# Altium footprint library Synthiam-roundtrip.PcbLib: 483 footprints (part 15 of 31)
Each footprint in its own frame and in the unit in brackets; x right, y up, seen from the top. Pads: shape width x height; smd on the part's side, far side on the other; paste and mask are expansions set on the pad; w line width, h text height; cw(c..) or ccw(c..) is an arc to the next point about the centre after c.
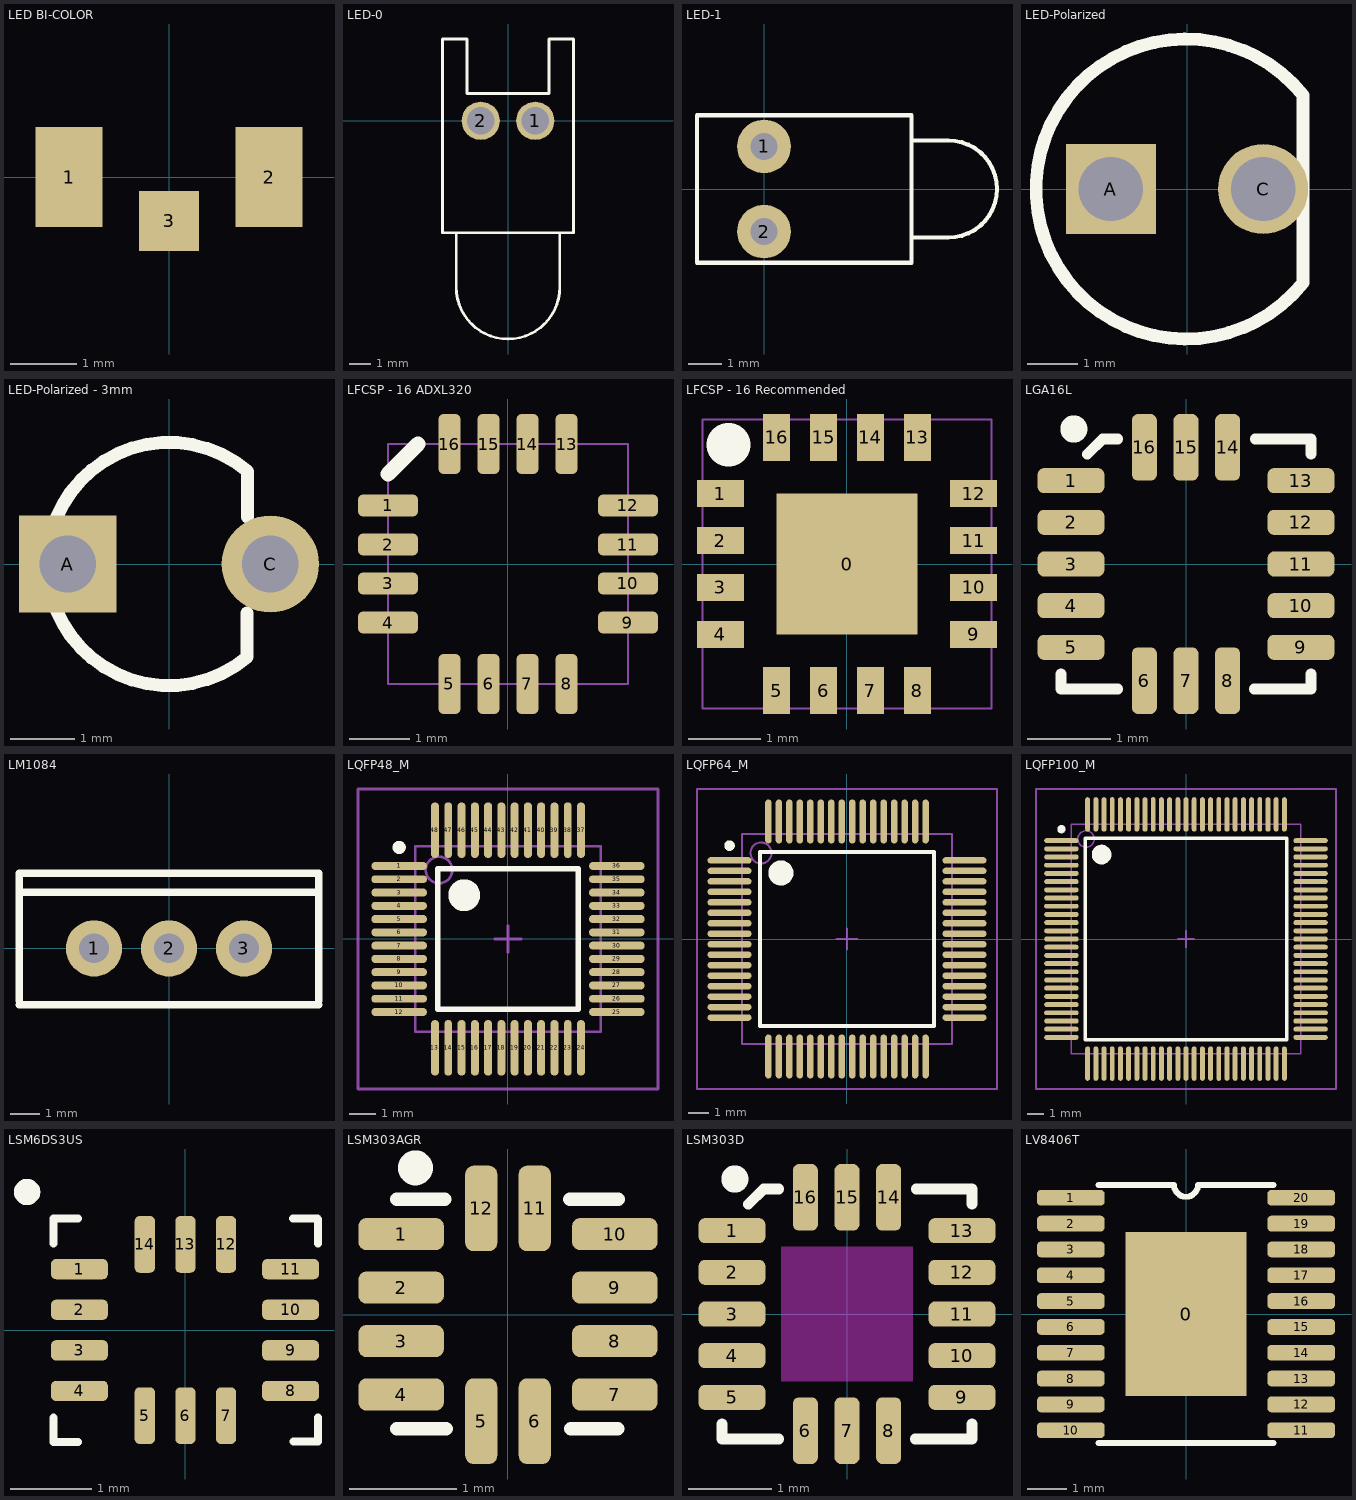
[diagram p14: the footprints below, top view; thin cyan lines are the x and y axes]

## LED BI-COLOR [mm]
pads (3):
  rect 1x1.5 smd: 1(-1.5,0) 2(1.5,0)
  rect 0.9x0.9 smd: 3(0,-0.656)

## LED-0 [mil]
pads (2):
  round 70 hole 50: 1(50,0) 2(-50,0)
Top Overlay:
  lines w5: -95,-205 -95,-305 ccw(c0,-305) 95,-305 95,-205 ; -120,-205 120,-205 120,150 75,150 75,50 -75,50 -75,150 -120,150 -120,-205

## LED-1 [mm]
pads (2):
  round 1.6 hole 0.8: 1(0,1.27) 2(0,-1.27)
Top Overlay:
  lines w0.127: 4.4,-1.45 5.5,-1.45 ccw(c5.5,0) 5.5,1.45 4.4,1.45 ; -2,-2.2 4.4,-2.2 4.4,2.2 -2,2.2 -2,-2.2

## LED-Polarized [mil]
pads (2):
  rect 70x70 hole 50: A(-59.21,0)
  round 70 hole 50: C(59.21,0)
Top Overlay:
  lines w10: 90.28,-72.85 cw(c-0.79,0) 90.28,72.85 90.28,-72.85

## LED-Polarized - 3mm [mil]
pads (2):
  rect 60x60 hole 35: A(-62.5,0)
  round 60 hole 35: C(62.5,0)
Top Overlay:
  lines w8: 48.21,-30.19 48.21,-57.45 cw(c0,0) 48.21,57.45 ; 48.5,29 48.5,56.95

## LFCSP - 16 ADXL320 [mm]
pads (16):
  rrect50% 1x0.37 smd: 1(-2,0.975) 2(-2,0.325) 3(-2,-0.325) 4(-2,-0.975) 9(2,-0.975) 10(2,-0.325) 11(2,0.325) 12(2,0.975)
  rrect50% 0.37x1 smd: 5(-0.975,-2) 6(-0.325,-2) 7(0.325,-2) 8(0.975,-2) 13(0.975,2) 14(0.325,2) 15(-0.325,2) 16(-0.975,2)
Top Overlay:
  lines w0.254: -2,1.5 -1.5,2
Mechanical 1:
  lines w0.025: -2,-2 2,-2 2,2 -2,2 -2,-2

## LFCSP - 16 Recommended [mm]
pads (17):
  rect 1.95x1.95 smd paste-0.5: 0(0,0)
  rect 0.65x0.37 smd: 1(-1.75,0.975) 2(-1.75,0.325) 3(-1.75,-0.325) 4(-1.75,-0.975) 9(1.75,-0.975) 10(1.75,-0.325) 11(1.75,0.325) 12(1.75,0.975)
  rect 0.37x0.65 smd: 5(-0.975,-1.75) 6(-0.325,-1.75) 7(0.325,-1.75) 8(0.975,-1.75) 13(0.975,1.75) 14(0.325,1.75) 15(-0.325,1.75) 16(-0.975,1.75)
Top Overlay:
  lines w0.6: -1.644,1.651 -1.633,1.651
Mechanical 1:
  lines w0.025: -2,-2 -2,2 2,2 2,-2 -2,-2

## LGA16L [mm]
pads (16):
  rrect50% 0.8x0.3 smd: 1(-1.38,1) 2(-1.38,0.5) 3(-1.38,0) 4(-1.38,-0.5) 5(-1.38,-1) 9(1.38,-1) 10(1.38,-0.5) 11(1.38,0) 12(1.38,0.5) 13(1.38,1)
  rrect50% 0.3x0.8 smd: 6(-0.5,-1.4) 7(0,-1.4) 8(0.5,-1.4) 14(0.5,1.4) 15(0,1.4) 16(-0.5,1.4)
Top Overlay:
  circle w0.254: c-1.346,1.62 r0.036
  lines w0.127: -1.5,-1.32 -1.5,-1.5 -0.82,-1.5 ; -1.185,1.315 -1,1.5 -0.82,1.5 ; 0.82,-1.5 1.49,-1.5 ; 0.83,1.5 1.5,1.5 1.5,1.32 ; 1.5,-1.5 1.5,-1.32

## LM1084 [mil]
pads (3):
  round 75 hole 39.4: 1(-100,0) 2(0,0) 3(100,0)
Top Overlay:
  lines w10: -200,-75 200,-75 ; -200,-70 -200,100 200,100 200,-70 ; -200,75 200,75

## LQFP48_M [mm]
pads (48):
  oval 2.1x0.3 smd: 1(-4.1,2.75) 2(-4.1,2.25) 3(-4.1,1.75) 4(-4.1,1.25) 5(-4.1,0.75) 6(-4.1,0.25) 7(-4.1,-0.25) 8(-4.1,-0.75) 9(-4.1,-1.25) 10(-4.1,-1.75) 11(-4.1,-2.25) 12(-4.1,-2.75) 25(4.1,-2.75) 26(4.1,-2.25) 27(4.1,-1.75) 28(4.1,-1.25) 29(4.1,-0.75) 30(4.1,-0.25) 31(4.1,0.25) 32(4.1,0.75) 33(4.1,1.25) 34(4.1,1.75) 35(4.1,2.25) 36(4.1,2.75)
  oval 0.3x2.1 smd: 13(-2.75,-4.1) 14(-2.25,-4.1) 15(-1.75,-4.1) 16(-1.25,-4.1) 17(-0.75,-4.1) 18(-0.25,-4.1) 19(0.25,-4.1) 20(0.75,-4.1) 21(1.25,-4.1) 22(1.75,-4.1) 23(2.25,-4.1) 24(2.75,-4.1) 37(2.75,4.1) 38(2.25,4.1) 39(1.75,4.1) 40(1.25,4.1) 41(0.75,4.1) 42(0.25,4.1) 43(-0.25,4.1) 44(-0.75,4.1) 45(-1.25,4.1) 46(-1.75,4.1) 47(-2.25,4.1) 48(-2.75,4.1)
Top Overlay:
  circle w0.6: c-1.65,1.65 r0.3
  circle w0.25: c-4.1,3.45 r0.125
  lines w0.2: -2.65,-2.65 2.65,-2.65 2.65,2.65 -2.65,2.65 -2.65,-2.65
Mechanical 13:
  circle w0.1: c-2.6,2.6 r0.5
  lines w0.1: -3.5,-3.5 3.5,-3.5 3.5,3.5 -3.5,3.5 -3.5,-3.5
Mechanical 15:
  lines w0.1: -0.5,0 0.5,0 ; 0,-0.5 0,0.5 ; -5.65,-5.65 5.65,-5.65 5.65,5.65 -5.65,5.65 -5.65,-5.65
3D body: height 1.6, standoff 0, extent -3.5,-3.5 3.5,3.5

## LQFP64_M [mm]
pads (64):
  oval 2.1x0.3 smd: 1(-5.6,3.75) 2(-5.6,3.25) 3(-5.6,2.75) 4(-5.6,2.25) 5(-5.6,1.75) 6(-5.6,1.25) 7(-5.6,0.75) 8(-5.6,0.25) 9(-5.6,-0.25) 10(-5.6,-0.75) 11(-5.6,-1.25) 12(-5.6,-1.75) 13(-5.6,-2.25) 14(-5.6,-2.75) 15(-5.6,-3.25) 16(-5.6,-3.75) 33(5.6,-3.75) 34(5.6,-3.25) 35(5.6,-2.75) 36(5.6,-2.25) 37(5.6,-1.75) 38(5.6,-1.25) 39(5.6,-0.75) 40(5.6,-0.25) 41(5.6,0.25) 42(5.6,0.75) 43(5.6,1.25) 44(5.6,1.75) 45(5.6,2.25) 46(5.6,2.75) 47(5.6,3.25) 48(5.6,3.75)
  oval 0.3x2.1 smd: 17(-3.75,-5.6) 18(-3.25,-5.6) 19(-2.75,-5.6) 20(-2.25,-5.6) 21(-1.75,-5.6) 22(-1.25,-5.6) 23(-0.75,-5.6) 24(-0.25,-5.6) 25(0.25,-5.6) 26(0.75,-5.6) 27(1.25,-5.6) 28(1.75,-5.6) 29(2.25,-5.6) 30(2.75,-5.6) 31(3.25,-5.6) 32(3.75,-5.6) 49(3.75,5.6) 50(3.25,5.6) 51(2.75,5.6) 52(2.25,5.6) 53(1.75,5.6) 54(1.25,5.6) 55(0.75,5.6) 56(0.25,5.6) 57(-0.25,5.6) 58(-0.75,5.6) 59(-1.25,5.6) 60(-1.75,5.6) 61(-2.25,5.6) 62(-2.75,5.6) 63(-3.25,5.6) 64(-3.75,5.6)
Top Overlay:
  circle w0.6: c-3.15,3.15 r0.3
  circle w0.25: c-5.6,4.45 r0.125
  lines w0.2: -4.15,-4.15 4.15,-4.15 4.15,4.15 -4.15,4.15 -4.15,-4.15
Mechanical 13:
  circle w0.1: c-4.1,4.1 r0.5
  lines w0.1: -5,-5 5,-5 5,5 -5,5 -5,-5
Mechanical 15:
  lines w0.1: -0.5,0 0.5,0 ; 0,-0.5 0,0.5 ; -7.15,-7.15 7.15,-7.15 7.15,7.15 -7.15,7.15 -7.15,-7.15
3D body: height 1.6, standoff 0, extent -5,-5 5,5

## LQFP100_M [mm]
pads (100):
  oval 2.1x0.3 smd: 1(-7.6,6) 2(-7.6,5.5) 3(-7.6,5) 4(-7.6,4.5) 5(-7.6,4) 6(-7.6,3.5) 7(-7.6,3) 8(-7.6,2.5) 9(-7.6,2) 10(-7.6,1.5) 11(-7.6,1) 12(-7.6,0.5) 13(-7.6,0) 14(-7.6,-0.5) 15(-7.6,-1) 16(-7.6,-1.5) 17(-7.6,-2) 18(-7.6,-2.5) 19(-7.6,-3) 20(-7.6,-3.5) 21(-7.6,-4) 22(-7.6,-4.5) 23(-7.6,-5) 24(-7.6,-5.5) 25(-7.6,-6) 51(7.6,-6) 52(7.6,-5.5) 53(7.6,-5) 54(7.6,-4.5) 55(7.6,-4) 56(7.6,-3.5) 57(7.6,-3) 58(7.6,-2.5) 59(7.6,-2) 60(7.6,-1.5) 61(7.6,-1) 62(7.6,-0.5) 63(7.6,0) 64(7.6,0.5) 65(7.6,1) 66(7.6,1.5) 67(7.6,2) 68(7.6,2.5) 69(7.6,3) 70(7.6,3.5) 71(7.6,4) 72(7.6,4.5) 73(7.6,5) 74(7.6,5.5) 75(7.6,6)
  oval 0.3x2.1 smd: 26(-6,-7.6) 27(-5.5,-7.6) 28(-5,-7.6) 29(-4.5,-7.6) 30(-4,-7.6) 31(-3.5,-7.6) 32(-3,-7.6) 33(-2.5,-7.6) 34(-2,-7.6) 35(-1.5,-7.6) 36(-1,-7.6) 37(-0.5,-7.6) 38(0,-7.6) 39(0.5,-7.6) 40(1,-7.6) 41(1.5,-7.6) 42(2,-7.6) 43(2.5,-7.6) 44(3,-7.6) 45(3.5,-7.6) 46(4,-7.6) 47(4.5,-7.6) 48(5,-7.6) 49(5.5,-7.6) 50(6,-7.6) 76(6,7.6) 77(5.5,7.6) 78(5,7.6) 79(4.5,7.6) 80(4,7.6) 81(3.5,7.6) 82(3,7.6) 83(2.5,7.6) 84(2,7.6) 85(1.5,7.6) 86(1,7.6) 87(0.5,7.6) 88(0,7.6) 89(-0.5,7.6) 90(-1,7.6) 91(-1.5,7.6) 92(-2,7.6) 93(-2.5,7.6) 94(-3,7.6) 95(-3.5,7.6) 96(-4,7.6) 97(-4.5,7.6) 98(-5,7.6) 99(-5.5,7.6) 100(-6,7.6)
Top Overlay:
  circle w0.25: c-7.6,6.7 r0.125
  circle w0.6: c-5.15,5.15 r0.3
  lines w0.2: -6.15,-6.15 -6.15,6.15 6.15,6.15 6.15,-6.15 -6.15,-6.15
Mechanical 13:
  circle w0.1: c-6.1,6.1 r0.5
  lines w0.1: -7,-7 -7,7 7,7 7,-7 -7,-7
Mechanical 15:
  lines w0.1: -0.5,0 0.5,0 ; 0,-0.5 0,0.5 ; -9.15,-9.15 -9.15,9.15 9.15,9.15 9.15,-9.15 -9.15,-9.15
3D body: height 1.6, standoff 0, extent -7,-7 7,7

## LSM6DS3US [mm]
pads (14):
  rrect50% 0.7x0.25 smd: 1(-1.3,0.75) 2(-1.3,0.25) 3(-1.3,-0.25) 4(-1.3,-0.75) 8(1.3,-0.75) 9(1.3,-0.25) 10(1.3,0.25) 11(1.3,0.75)
  rrect50% 0.25x0.7 smd: 5(-0.495,-1.055) 6(0.005,-1.055) 7(0.505,-1.055) 12(0.505,1.055) 13(0.005,1.055) 14(-0.495,1.055)
Top Overlay:
  circle w0.125: c-1.945,1.7 r0.1
  lines w0.1: -1.62,-1.081 -1.62,-1.381 -1.32,-1.381 ; -1.62,1.067 -1.62,1.367 ; -1.62,1.375 -1.32,1.375 ; 1.33,1.375 1.63,1.375 ; 1.337,-1.375 1.637,-1.375 1.637,-1.075 ; 1.639,1.064 1.639,1.364 1.639,1.117
  lines w0.25: -1.97,1.7 -1.92,1.7

## LSM303AGR [mm]
pads (12):
  rrect50% 0.8x0.3 smd: 1(-1,0.755) 2(-1,0.255) 3(-1,-0.245) 4(-1,-0.745) 7(1,-0.745) 8(1,-0.245) 9(1,0.255) 10(1,0.755)
  rrect50% 0.3x0.8 smd: 5(-0.25,-0.995) 6(0.25,-0.995) 11(0.25,0.995) 12(-0.25,0.995)
Top Overlay:
  circle w0.254: c-0.866,1.375 r0.036
  lines w0.127: -1.04,-1.065 -0.58,-1.065 ; -1.04,1.08 -0.59,1.08 ; 0.58,1.08 1.03,1.08 ; 0.585,-1.065 1.025,-1.065

## LSM303D [mm]
pads (16):
  rrect50% 0.8x0.3 smd: 1(-1.38,1) 2(-1.38,0.5) 3(-1.38,0) 4(-1.38,-0.5) 5(-1.38,-1) 9(1.38,-1) 10(1.38,-0.5) 11(1.38,0) 12(1.38,0.5) 13(1.38,1)
  rrect50% 0.3x0.8 smd: 6(-0.5,-1.4) 7(0,-1.4) 8(0.5,-1.4) 14(0.5,1.4) 15(0,1.4) 16(-0.5,1.4)
Top Overlay:
  circle w0.254: c-1.346,1.62 r0.036
  lines w0.127: -1.5,-1.32 -1.5,-1.5 -0.82,-1.5 ; -1.185,1.315 -1,1.5 -0.82,1.5 ; 0.82,-1.5 1.49,-1.5 ; 0.83,1.5 1.5,1.5 1.5,1.32 ; 1.5,-1.5 1.5,-1.32
Keep-Out Layer:
  rectangle: -0.79,-0.81 0.79,0.81

## LV8406T [mil]
pads (21):
  rect 122x165 smd: 0(0,0)
  rrect50% 68x16 smd: 1(-116,117) 2(-116,91) 3(-116,65) 4(-116,39) 5(-116,13) 6(-116,-13) 7(-116,-39) 8(-116,-65) 9(-116,-91) 10(-116,-117) 11(116,-117) 12(116,-91) 13(116,-65) 14(116,-39) 15(116,-13) 16(116,13) 17(116,39) 18(116,65) 19(116,91) 20(116,117)
Top Overlay:
  lines w6: -88,-130 88,-130 ; -88,130 -12,130 ccw(c0,130) 12,130 88,130